# Altium footprint library Connectors.PcbLib: 28 footprints (part 2 of 2)
Each footprint in its own frame and in the unit in brackets; x right, y up, seen from the top. Pads: shape width x height; smd on the part's side, far side on the other; paste and mask are expansions set on the pad; w line width, h text height; cw(c..) or ccw(c..) is an arc to the next point about the centre after c.
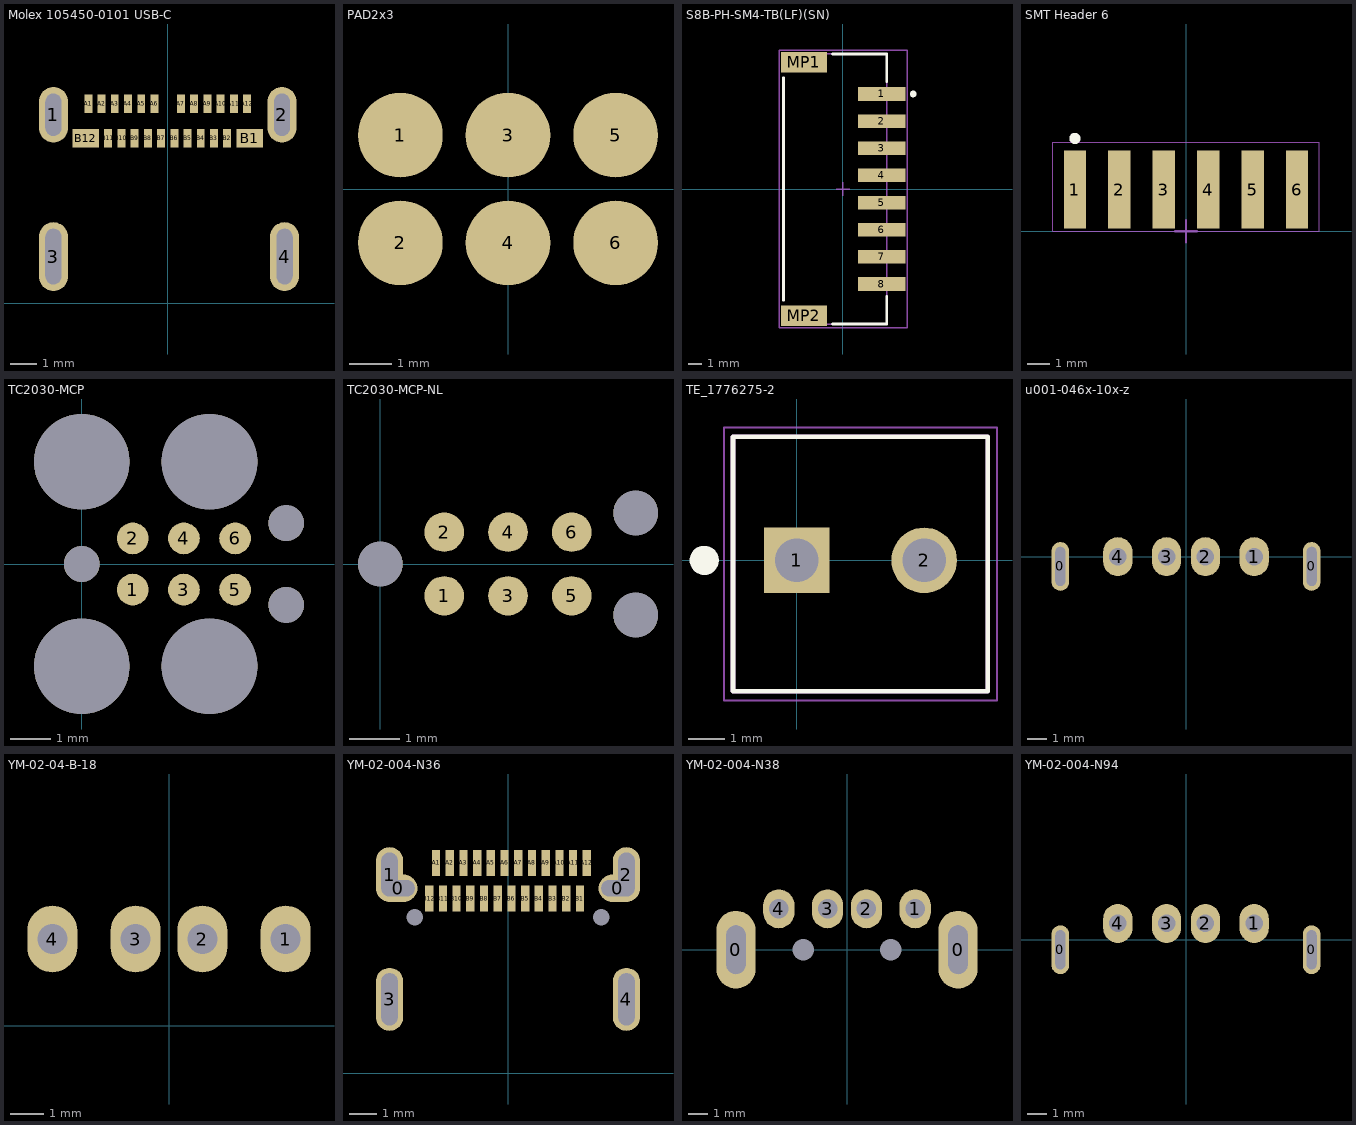
[diagram p1: the footprints below, top view; thin cyan lines are the x and y axes]

## Molex 105450-0101 USB-C [mm] "Molex 105450-0101 USB-C"
pads (28):
  oval 1.1x2.1 hole 0.6 slot 1.6 at 90 deg: 1(-4.32,7.13) 2(4.32,7.13)
  oval 1.1x2.6 hole 0.6 slot 2.1 at 90 deg: 3(-4.32,1.77) 4(4.42,1.77)
  rect 0.3x0.7 smd: A1(-3,7.54) A2(-2.5,7.54) A3(-2,7.54) A4(-1.5,7.54) A6(-0.5,7.54) A7(0.5,7.54) A8(1,7.54) A9(1.5,7.54) A10(2,7.54) A11(2.5,7.54) A12(3,7.54) B2(2.25,6.24) B3(1.75,6.24) B4(1.25,6.24) B5(0.75,6.24) B6(0.25,6.24) B7(-0.25,6.24) B8(-0.75,6.24) B9(-1.25,6.24) B10(-1.75,6.24) B11(-2.25,6.24)
  rect 0.3x0.7 smd paste+0: A5(-1,7.54)
  rect 1x0.7 smd: B1(3.1,6.24) B12(-3.1,6.24)
3D body: height 3.18, standoff -0.78, extent -4.47,-0.3 4.47,7.6

## PAD2x3 [mm] "Pogo pin contact pads 2x3, 2.54 mm pitch"
pads (6):
  round 2 smd: 1(-2.54,1.27) 2(-2.54,-1.27) 3(0,1.27) 4(0,-1.27) 5(2.54,1.27) 6(2.54,-1.27)

## S8B-PH-SM4-TB(LF)(SN) [mm]
pads (10):
  rect 3.5x1 smd: 1(2.87,7) 2(2.87,5) 3(2.87,3) 4(2.87,1) 5(2.87,-1) 6(2.87,-3) 7(2.87,-5) 8(2.87,-7)
  rect 3.4x1.5 smd: MP1(-2.88,9.35) MP2(-2.88,-9.35)
Top Overlay:
  circle w0.25: c5.17,7 r0.125
  lines w0.2: -4.38,-8.2 -4.38,8.2 ; -0.78,-9.95 3.22,-9.95 3.22,-7.9 ; -0.78,9.95 3.22,9.95 3.22,7.9
3D Top:
  lines w0.1: -4.38,-9.95 3.22,-9.95 ; -4.38,-7.95 -4.38,7.95 ; -4.38,9.95 3.22,9.95 ; 3.22,-7.95 3.22,7.95
Courtyard Top:
  lines w0.1: -0.505,0 0.495,0 ; -0.005,-0.5 -0.005,0.5 ; -4.705,-10.225 4.745,-10.225 4.745,10.225 -4.705,10.225 -4.705,-10.225
3D body: height 5.5, standoff -0.1, extent -4.38,-9.95 4.221,9.95

## SMT Header 6 [mm] "SMD, 2-Leads, Body 15.9x7.6mm, Pitch 2mm"
height 0.5
pads (6):
  rect 1x3.5 smd: 1(-5,1.875) 2(-3,1.875) 3(-1,1.875) 4(1,1.875) 5(3,1.875) 6(5,1.875)
Top Overlay:
  circle w0.25: c-5,4.175 r0.125
Outline:
  lines w0.051: -6,0 -6,4 6,4 6,0 -6,0
Courtyard Top:
  lines w0.1: -0.5,0 0.5,0 ; 0,-0.5 0,0.5
3D body: height 0.1, standoff 0, extent -6,0 6,4

## TC2030-MCP [mil]
pads (13):
  rrect100% 31x31 smd paste-196.85: 1(50,-25) 2(50,25) 3(100,-25) 4(100,25) 5(150,-25) 6(150,25)
  round 93.5 hole 93.5 unplated: ""(0,-100) ""(0,100) ""(125,-100) ""(125,100)
  round 35 hole 35 unplated: ""(0,0) ""(200,-40) ""(200,40)
Mechanical 30:
  region: 0,0 10,0 10,10 0,10

## TC2030-MCP-NL [mil]
pads (9):
  rrect100% 31x31 smd paste-196.85: 1(50,-25) 2(50,25) 3(100,-25) 4(100,25) 5(150,-25) 6(150,25)
  round 35 hole 35 unplated: ""(0,0) ""(200,-40) ""(200,40)
Mechanical 30:
  region: 0,0 10,0 10,10 0,10

## TE_1776275-2 [mm]
pads (2):
  rect 1.8x1.8 hole 1.2: 1(0,0)
  round 1.8 hole 1.2: 2(3.5,0)
Top Overlay:
  circle w0.4: c-2.54,0 r0.2
  lines w0.127: -1.75,-3.6 -1.75,3.4 5.25,3.4 5.25,-3.6 -1.75,-3.6
Outline:
  circle w0.4: c0,0 r0.2
  lines w0.05: -2,-3.85 -2,3.65 5.5,3.65 5.5,-3.85 -2,-3.85
  lines w0.127: -1.75,-3.6 -1.75,3.4 5.25,3.4 5.25,-3.6 -1.75,-3.6
3D body: height 8.3, standoff -4.2, extent -2.252,-3.595 5.748,3.405

## u001-046x-10x-z [mm]
pads (6):
  oval 0.9x2.5 hole 0.5 slot 2 at 90 deg: 0(-6.45,-0.5) 0(6.45,-0.5)
  oval 1.5x2 hole 0.9: 1(3.5,0) 2(1,0) 3(-1,0) 4(-3.5,0)
3D body: height 6.9, standoff 0, extent -7.319,-12.728 7.316,0.959

## YM-02-04-B-18 [mm]
pads (4):
  oval 1.5x2 hole 0.9: 1(3.5,2.6) 2(1,2.6) 3(-1,2.6) 4(-3.5,2.6)
3D body: height 6.9, standoff 0, extent -7.155,-10.415 7.164,3.64

## YM-02-004-N36 [mm] "USB-C Female"
pads (32):
  oval 1.4x1 hole 0.6 slot 1.2 at 0 deg: 0(-4,6.75) 0(4,6.75)
  round 0 hole 0.6: 0(-3.4,5.7) 0(3.4,5.7)
  oval 1x2 hole 0.6 slot 1.6 at 90 deg: 1(-4.32,7.25) 2(4.32,7.25)
  oval 1x2.3 hole 0.6 slot 1.9 at 90 deg: 3(-4.32,2.7) 4(4.32,2.7)
  rect 0.3x0.95 smd: A1(-2.625,7.675) A2(-2.125,7.675) A3(-1.625,7.675) A4(-1.125,7.675) A6(-0.125,7.675) A7(0.375,7.675) A8(0.875,7.675) A9(1.375,7.675) A10(1.875,7.675) A11(2.375,7.675) A12(2.875,7.675) B1(2.625,6.375) B2(2.125,6.375) B3(1.625,6.375) B4(1.125,6.375) B5(0.625,6.375) B6(0.125,6.375) B7(-0.375,6.375) B8(-0.875,6.375) B9(-1.375,6.375) B10(-1.875,6.375) B11(-2.375,6.375) B12(-2.875,6.375)
  rect 0.3x0.95 smd paste+0: A5(-0.625,7.675)
3D body: height 3.18, standoff -0.78, extent -4.47,0 4.47,7.9

## YM-02-004-N38 [mm]
pads (8):
  oval 2x4 hole 1 slot 2.5 at 90 deg: 0(-5.7,0) 0(5.7,0)
  round 0 hole 1.1: 0(-2.25,0) 0(2.25,0)
  oval 1.6x2 hole 1: 1(3.5,2.1) 2(1,2.1) 3(-1,2.1) 4(-3.5,2.1)
3D body: height 4.5, standoff 0, extent -5.991,-17.602 5.982,1.253

## YM-02-004-N94 [mm]
pads (6):
  oval 0.9x2.5 hole 0.5 slot 2 at 90 deg: 0(-6.45,-0.5) 0(6.45,-0.5)
  oval 1.5x2 hole 0.9: 1(3.5,0.85) 2(1,0.85) 3(-1,0.85) 4(-3.5,0.85)
3D body: height 6.9, standoff 0, extent -7.319,-12.728 7.316,0.959